# Altium footprint library CAP_ELEC_6.3x5.3.PcbLib: 1 footprints
Each footprint in its own frame and in the unit in brackets; x right, y up, seen from the top. Pads: shape width x height; smd on the part's side, far side on the other; paste and mask are expansions set on the pad; w line width, h text height; cw(c..) or ccw(c..) is an arc to the next point about the centre after c.
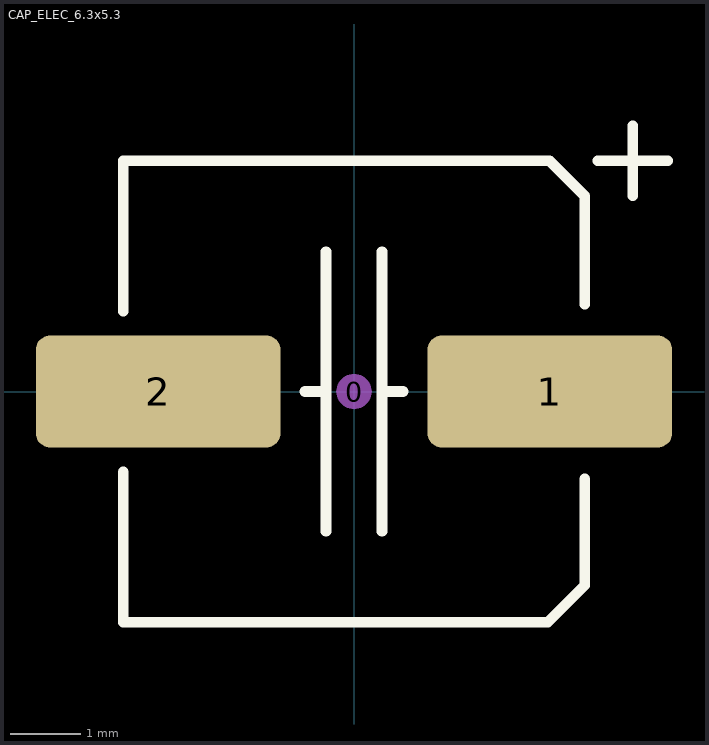
[diagram p0: the footprint, top view; thin cyan lines are the x and y axes]

## CAP_ELEC_6.3x5.3 [mm] "Capacitor, polarized, aluminum can; 6.3x5.3mm DxH"
height 5.3
pads (3):
  round 0.508 on Mech15: 0(0,0)
  rrect25% 3.5x1.6 smd: 1(2.8,0) 2(-2.8,0)
Top Overlay:
  lines w0.152: -3.3,-1.15 -3.3,-3.3 2.771,-3.3 3.3,-2.771 3.3,-1.25 ; -3.3,1.15 -3.3,3.3 2.796,3.3 3.3,2.796 3.3,1.25 ; -0.7,0 -0.5,0 ; -0.4,-2 -0.4,2 ; 0.4,-2 0.4,2 ; 0.5,0 0.7,0 ; 3.484,3.302 3.984,3.302 4.484,3.302 ; 3.984,2.802 3.984,3.802
3D body "User Library-capasitores electroliticos.STEP": height 5.55, standoff 0, extent -3.3,-3.3 3.3,3.3